# EAGLE library part DAC_PCM1681 (library My_STM32F767)
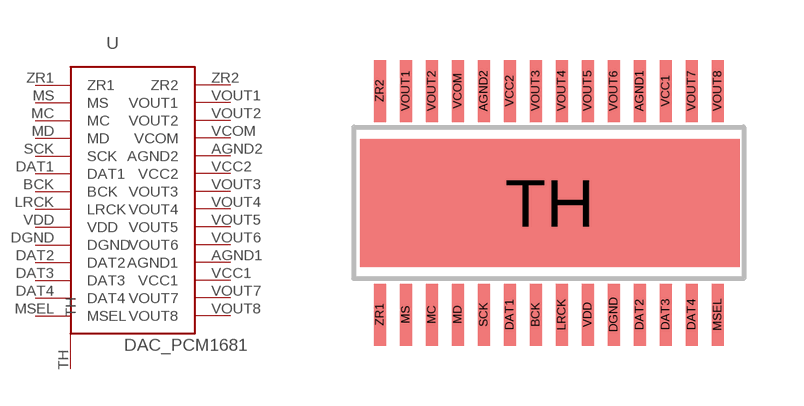
[diagram p3: symbol with the pads of DAC_PCM1681; footprint DAC_PCM1681]

Designator prefix -

## DAC_PCM1681  [DAC_PCM1681]
AGND1  AGND1
AGND2  AGND2
BCK  BCK
DAT1  DAT1
DAT2  DAT2
DAT3  DAT3
DAT4  DAT4
DGND  DGND
LRCK  LRCK
MC  MC
MD  MD
MS  MS
MSEL  MSEL
SCK  SCK
TH  TH
VCC1  VCC1
VCC2  VCC2
VCOM  VCOM
VDD  VDD
VOUT1  VOUT1
VOUT2  VOUT2
VOUT3  VOUT3
VOUT4  VOUT4
VOUT5  VOUT5
VOUT6  VOUT6
VOUT7  VOUT7
VOUT8  VOUT8
ZR1  ZR1
ZR2  ZR2

## Footprint DAC_PCM1681 (pad centres in mm)
smd 0.3 x 1.55: AGND1 1.95,3; AGND2 -1.95,3; BCK -0.65,-2.6; DAT1 -1.3,-2.6; DAT2 1.95,-2.6; DAT3 2.6,-2.6; DAT4 3.25,-2.6; DGND 1.3,-2.6; LRCK 0,-2.6; MC -3.25,-2.6; MD -2.6,-2.6; MS -3.9,-2.6; MSEL 3.9,-2.6; SCK -1.95,-2.6; VCC1 2.6,3; VCC2 -1.3,3; VCOM -2.6,3; VDD 0.65,-2.6; VOUT1 -3.9,3; VOUT2 -3.25,3; VOUT3 -0.65,3; VOUT4 0,3; VOUT5 0.65,3; VOUT6 1.3,3; VOUT7 3.25,3; VOUT8 3.9,3; ZR1 -4.55,-2.6; ZR2 -4.55,3
smd 9.5 x 3.2: TH -0.3,0.2